# Altium footprint library DDO-214AA (SMBJ) - VISHAY.PcbLib: 1 footprints
Each footprint in its own frame and in the unit in brackets; x right, y up, seen from the top. Pads: shape width x height; smd on the part's side, far side on the other; paste and mask are expansions set on the pad; w line width, h text height; cw(c..) or ccw(c..) is an arc to the next point about the centre after c.
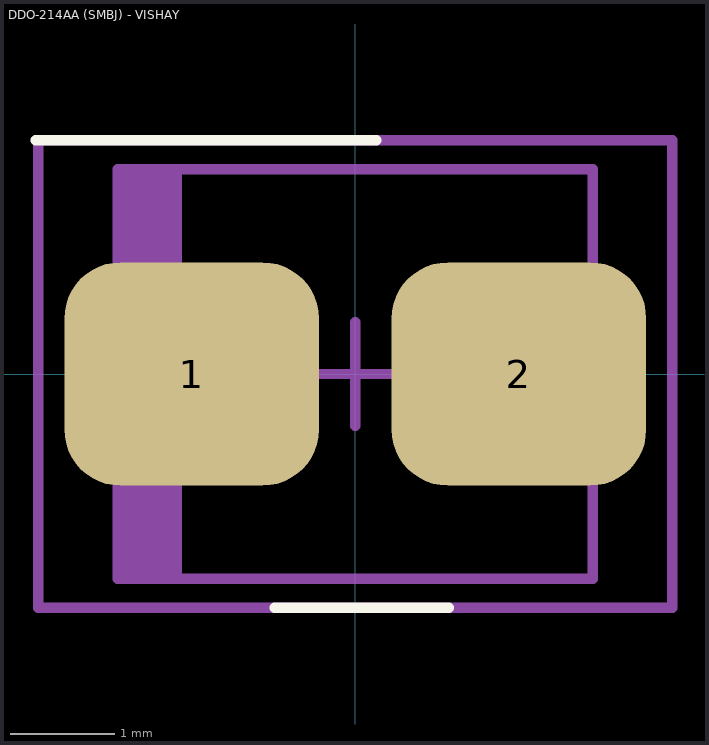
[diagram p0: the footprint, top view; thin cyan lines are the x and y axes]

## DDO-214AA (SMBJ) - VISHAY [mm] "Molded Diode, 2-Leads, Body 4,31x3,62mm, IPC Medium Density"
height 2.44
pads (2):
  rrect50% 2.45x2.15 smd: 1(-1.575,0) 2(1.575,0)
Top Overlay:
  lines w0.1: -3.075,2.25 0.202,2.25 ; -0.775,-2.25 0.9,-2.25
Top Courtyard:
  lines w0.1: -0.5,0 0.5,0 ; 0,-0.5 0,0.5 ; -3.05,-2.25 -3.05,2.25 3.05,2.25 3.05,-2.25 -3.05,-2.25
Mechanical 13:
  rectangle: -2.285,-1.97 -1.67,1.97
  lines w0.1: -2.285,-1.97 -2.285,1.97 2.285,1.97 2.285,-1.97 -2.285,-1.97
Top Designator:
  text ".Designator" at -1.225,-0.058 h0.25
3D body "DIOM4336X24N.step": height 2.44, standoff 0, extent -2.605,-2.095 2.405,1.845